# Altium footprint library Transistors.PcbLib: 6 footprints
Each footprint in its own frame and in the unit in brackets; x right, y up, seen from the top. Pads: shape width x height; smd on the part's side, far side on the other; paste and mask are expansions set on the pad; w line width, h text height; cw(c..) or ccw(c..) is an arc to the next point about the centre after c.
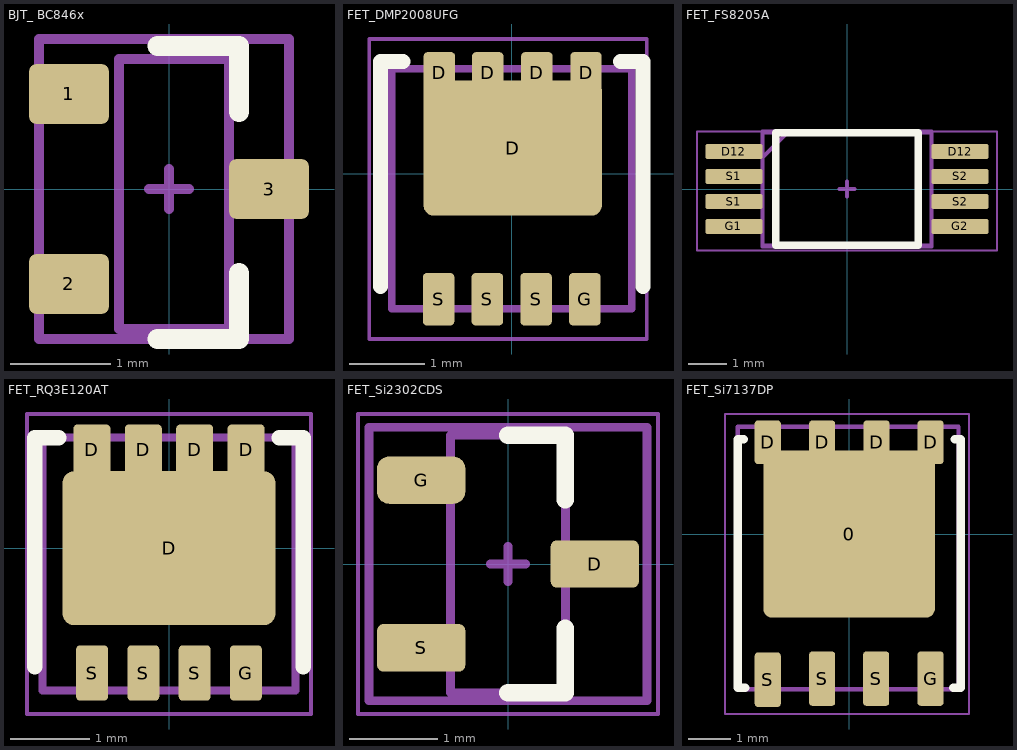
[diagram p0: the footprints below, top view; thin cyan lines are the x and y axes]

## BJT_ BC846x [mm]
pads (3):
  rrect25% 0.8x0.6 smd mask+0.05: 1(-1,0.95) 2(-1,-0.95) 3(1,0)
Top Overlay:
  lines w0.2: -0.115,-1.5 0.7,-1.5 0.7,-0.84 ; -0.115,1.43 0.7,1.43 0.7,0.77
  text "." at -0.949,1.372 h2
Top Component Center:
  lines w0.1: -0.2,0 0,0 ; 0,-0.2 0,0 ; 0,0.2 0,0 ; 0.2,0 0,0
Top Assembly:
  lines w0.1: -1.3,-1.5 -1.3,1.5 1.2,1.5 1.2,-1.5 -1.3,-1.5
Top Designator:
  text ".Designator" at -7.618,-0.233 h1.52
Top 3D Body:
  lines w0.1: -0.5,-1.4 -0.5,1.3 0.6,1.3 0.6,-1.4 -0.5,-1.4
Top Courtyard:
  lines w0.05: -1.3,-1.5 -1.3,1.5 1.2,1.5 1.2,-1.5 -1.3,-1.5
3D body "SOT23_BC846B_NEX.step": height 1.09, standoff 0, extent -1.245,-1.499 1.245,1.499

## FET_DMP2008UFG [mm]
pads (9):
  rrect25% 0.42x0.55 smd paste-100 mask+0.05: D(-0.965,1.35) D(-0.32,1.35) D(0.335,1.35) D(0.99,1.35)
  rrect15% 2.38x1.8 smd: D(0.013,0.345)
  rrect25% 0.42x0.7 smd paste-100 mask+0.05: G(0.975,-1.67) S(-0.975,-1.67) S(-0.325,-1.67) S(0.325,-1.67)
Top Overlay:
  lines w0.2: -1.75,-1.5 -1.75,1.5 -1.448,1.5 ; 1.448,1.5 1.75,1.5 1.75,-1.5
  text "." at -1.558,-2.083 h2
Top Component Center:
  lines w0.1: -0.2,0 0,0 ; 0,-0.2 0,0 ; 0,0.2 0,0 ; 0.2,0 0,0
Top Assembly:
  lines w0.1: -1.6,-1.8 1.6,-1.8 1.6,1.4 -1.6,1.4 -1.6,-1.8
Top Designator:
  text ".Designator" at -2.252,-0.326 h1
Top Courtyard:
  lines w0.05: -1.9,-2.2 1.8,-2.2 1.8,1.8 -1.9,1.8 -1.9,-2.2
3D body "DMP2008UFG-7.stp": height 0.85, standoff 0, extent -1.65,-1.85 1.65,1.45

## FET_FS8205A [mm]
pads (8):
  rrect25% 1.475x0.4 smd: D12(-2.938,0.975) D12(2.938,0.975) G1(-2.938,-0.975) G2(2.938,-0.975) S1(-2.938,-0.325) S1(-2.938,0.325) S2(2.938,-0.325) S2(2.938,0.325)
Top Overlay:
  lines w0.2: -1.85,-1.465 1.85,-1.465 1.85,1.465 -1.85,1.465 -1.85,-1.465
  text "." at -3.061,1.35 h2
Top Component Center:
  lines w0.1: -0.2,0 0,0 ; 0,-0.2 0,0 ; 0,0.2 0,0 ; 0.2,0 0,0
Top Assembly:
  lines w0.1: -2.2,-1.5 -2.2,1.5 2.2,1.5 2.2,-1.5 -2.2,-1.5
Top Designator:
  text ".Designator" at -7.618,-0.495 h1.52
Top 3D Body:
  lines w0.1: -2.2,0.815 -1.55,1.465 ; -2.2,-1.465 2.2,-1.465 2.2,1.465 -2.2,1.465 -2.2,-1.465
Top Courtyard:
  lines w0.05: -3.9,-1.6 -3.9,1.5 3.9,1.5 3.9,-1.6 -3.9,-1.6
3D body "FS8205A.stp": height 1.2, standoff 0, extent -3.2,-1.465 3.2,1.465

## FET_RQ3E120AT [mm]
pads (9):
  rrect25% 0.47x0.65 smd paste-100 mask+0.051: D(-0.976,1.245) D(-0.325,1.245) D(0.325,1.245) D(0.976,1.245)
  rrect15% 2.7x1.95 smd paste-100 mask+0.051: D(0,0)
  rrect25% 0.406x0.7 smd paste-100 mask+0.051: G(0.975,-1.581) S(-0.975,-1.581) S(-0.325,-1.581) S(0.325,-1.581)
Top Overlay:
  lines w0.2: -1.7,-1.5 -1.7,1.4 -1.4,1.4 ; 1.4,1.4 1.7,1.4 1.7,-1.5
  text "." at -1.533,-1.956 h2
Top Component Center:
  lines w0.1: -0.2,0 0,0 ; 0,-0.2 0,0 ; 0,0.2 0,0 ; 0.2,0 0,0
Top Assembly:
  lines w0.1: -1.6,-1.8 -1.6,1.4 1.6,1.4 1.6,-1.8 -1.6,-1.8
Top Designator:
  text ".Designator" at -2.252,-0.326 h1
Top Courtyard:
  lines w0.05: -1.8,-2.1 -1.8,1.7 1.8,1.7 1.8,-2.1 -1.8,-2.1
3D body "RQ3E120ATTB.STEP": height 0.9, standoff 0, extent -1.65,-1.85 1.65,1.45

## FET_Si2302CDS [mm]
pads (3):
  rrect25% 1x0.536 smd paste+0 mask+0: D(0.984,0) S(-0.984,-0.95)
  rrect50% 1x0.536 smd paste+0 mask+0: G(-0.984,0.95)
Top Overlay:
  lines w0.2: 0,-1.46 0.65,-1.46 0.65,-0.73 ; 0,1.46 0.65,1.46 0.65,0.73
  text "." at -1.279,1.27 h2
Top Component Center:
  lines w0.1: -0.2,0 0.2,0 ; 0,-0.2 0,0.2
Top Assembly:
  lines w0.1: -1.575,-1.55 1.575,-1.55 1.575,1.55 -1.575,1.55 -1.575,-1.55
Top Designator:
  text ".Designator" at -2.252,-0.226 h1
Top 3D Body:
  lines w0.1: -0.65,-1.46 0.65,-1.46 0.65,1.46 -0.65,1.46 -0.65,-1.46
Top Courtyard:
  lines w0.05: -1.7,-1.7 1.7,-1.7 1.7,1.7 -1.7,1.7 -1.7,-1.7
3D body "Trans_Vishay_SI2318DS-T1-E3_eec.STEP": height 0.25, standoff 0, extent -1.572,-1.56 1.572,1.56

## FET_Si7137DP [mm]
pads (9):
  rrect10% 4x3.9 smd: 0(0,0)
  rrect25% 0.61x1.02 smd paste-100 mask+0.051: D(-1.9,2.14) D(-0.63,2.14) D(0.64,2.14) D(1.9,2.14)
  rrect25% 0.61x1.27 smd paste-100 mask+0.051: G(1.9,-3.375) S(-1.9,-3.4) S(-0.63,-3.375) S(0.63,-3.375)
Top Overlay:
  lines w0.2: -2.5,2.21 -2.463,2.21 -2.6,2.21 -2.6,-0.727 -2.6,-3.59 -2.429,-3.59 ; 2.429,-3.59 2.6,-3.59 2.6,-0.727 2.6,2.21 2.463,2.21 2.5,2.21
  text "." at -2.676,-4.064 h2
Top Component Center:
  lines w0.2: -0.508,0 0,0 ; 0,-0.508 0,0 ; 0,0.508 0,0 ; 0.508,0 0,0
Top Assembly:
  lines w0.1: -2.6,-3.625 -2.6,2.5 2.55,2.5 2.55,-3.625 -2.6,-3.625
Top Designator:
  text ".Designator" at -2.252,-0.226 h1
Top Courtyard:
  lines w0.05: -2.9,-4.2 -2.9,2.8 2.8,2.8 2.8,-4.2 -2.9,-4.2
3D body "SI7137DP-T1-GE3.STEP": height 1.12, standoff 0, extent -2.603,-3.648 2.553,2.498